# Altium footprint library Test_Jig_Project.PcbLib: 12 footprints
Each footprint in its own frame and in the unit in brackets; x right, y up, seen from the top. Pads: shape width x height; smd on the part's side, far side on the other; paste and mask are expansions set on the pad; w line width, h text height; cw(c..) or ccw(c..) is an arc to the next point about the centre after c.
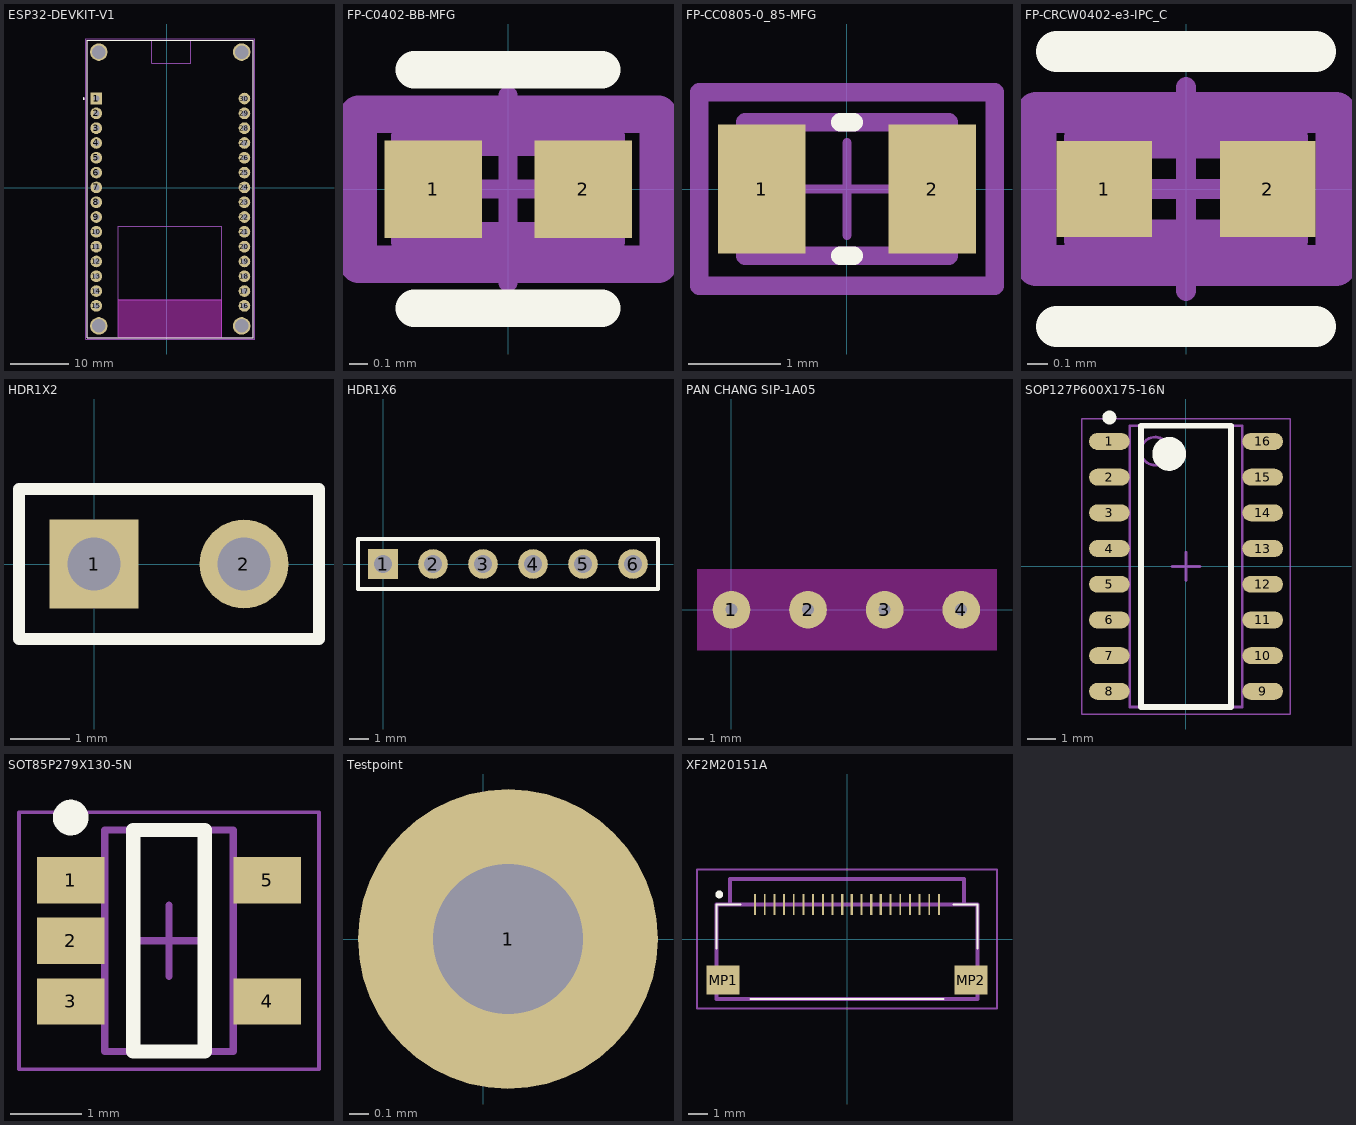
[diagram p0: the footprints below, top view; thin cyan lines are the x and y axes]

## 629105136821 [mm] "Micro USB 2.0 SMT Type B Horizontal 5 Contacts"
height 3

## ESP32-DEVKIT-V1 [mm]
pads (34):
  rect 2x2 hole 1.02: 1(-12.098,15.341)
  round 2 hole 1.02: 2(-12.098,12.801) 3(-12.098,10.261) 4(-12.098,7.721) 5(-12.098,5.181) 6(-12.098,2.641) 7(-12.098,0.101) 8(-12.098,-2.439) 9(-12.098,-4.979) 10(-12.098,-7.519) 11(-12.098,-10.059) 12(-12.098,-12.599) 13(-12.098,-15.139) 14(-12.098,-17.679) 15(-12.098,-20.219) 16(13.302,-20.219) 17(13.302,-17.679) 18(13.302,-15.139) 19(13.302,-12.599) 20(13.302,-10.059) 21(13.302,-7.519) 22(13.302,-4.979) 23(13.302,-2.439) 24(13.302,0.101) 25(13.302,2.641) 26(13.302,5.181) 27(13.302,7.721) 28(13.302,10.261) 29(13.302,12.801) 30(13.302,15.341)
  round 3 hole 2.289 unplated: ""(-11.678,-23.649) ""(-11.678,23.301) ""(12.832,-23.649) ""(12.832,23.301)
Top Overlay:
  circle w0.2: c-14.248,15.341 r0.1
  lines w0.127: -13.678,-25.649 -8.308,-25.649 9.382,-25.649 14.832,-25.649 ; -13.678,-25.649 -13.678,25.301 ; -13.678,-25.649 -13.678,25.301 ; -13.678,-25.649 14.832,-25.649 ; -13.678,25.301 -2.609,25.301 4.102,25.301 14.832,25.301 ; -13.678,25.301 14.832,25.301 ; 14.832,-25.649 14.832,25.301 ; 14.832,-25.649 14.832,25.301
Keep-Out Layer:
  region: 9.382,-25.649 -8.308,-25.649 -8.308,-19.159 9.382,-19.159
  region: 9.382,-25.649 -8.308,-25.649 -8.308,-19.159 9.382,-19.159
  region: 9.382,-25.649 -8.308,-25.649 -8.308,-19.159 9.382,-19.159
Mechanical 13:
  circle w0.2: c-14.248,15.341 r0.1
  lines w0.127: -8.308,-25.649 -8.308,-19.159 ; -8.308,-25.649 9.382,-25.649 ; -8.308,-25.649 -13.678,-25.649 -13.678,25.301 -2.609,25.301 ; -8.308,-19.159 9.382,-19.159 ; -8.308,-19.159 -8.308,-6.529 9.382,-6.529 9.382,-19.159 ; -2.609,25.301 -2.609,21.411 4.102,21.411 4.102,25.301 ; -2.609,25.301 4.102,25.301 ; 4.102,25.301 14.832,25.301 14.832,-25.649 9.382,-25.649 ; 9.382,-25.649 9.382,-19.159
Mechanical 15:
  lines w0.05: -13.928,-25.899 15.082,-25.899 15.082,25.551 -13.928,25.551 -13.928,-25.899
3D body "ESP-32_v1.STEP": height 7.2, standoff -5.2, extent -13.503,-25.629 14.997,25.301

## FP-C0402-BB-MFG [mm]
pads (2):
  rect 0.52x0.52 smd paste+0 mask+0: 1(-0.4,0) 2(0.4,0)
Top Overlay:
  lines w0.2: -0.5,-0.635 0.5,-0.635 ; -0.5,0.635 0.5,0.635
Top 3D Body:
  lines w0.2: -0.525,-0.275 -0.525,0.275 0.525,0.275 0.525,-0.275 -0.525,-0.275
Top Courtyard:
  lines w0.2: -0.8,-0.4 -0.8,0.4 0.8,0.4 0.8,-0.4 -0.8,-0.4
Top Assembly:
  lines w0.2: -0.8,-0.4 -0.8,0.4 0.8,0.4 0.8,-0.4 -0.8,-0.4
  text ".Designator" at 0,0.188 h1
Top Component Center:
  lines w0.1: -0.5,0 0.5,0 ; 0,-0.5 0,0.5
3D body "Cap_Kemet_C0402C562J5RACTU_eec.STEP": height 0.25, standoff 0, extent -0.8,-0.4 0.8,0.4

## FP-CC0805-0_85-MFG [mm]
pads (2):
  rect 0.95x1.4 smd paste+0 mask+0: 1(-0.925,0) 2(0.925,0)
Top Overlay:
  lines w0.2: -0.075,-0.725 0.075,-0.725 ; -0.075,0.725 0.075,0.725
Top 3D Body:
  lines w0.2: -1.1,-0.725 1.1,-0.725 1.1,0.725 -1.1,0.725 -1.1,-0.725
Top Courtyard:
  lines w0.2: -1.6,-1.05 1.6,-1.05 1.6,1.05 -1.6,1.05 -1.6,-1.05
Top Assembly:
  lines w0.2: -1.6,-1.05 1.6,-1.05 1.6,1.05 -1.6,1.05 -1.6,-1.05
  text ".Designator" at 0,0.188 h1
Top Component Center:
  lines w0.1: -0.5,0 0.5,0 ; 0,-0.5 0,0.5
3D body "Cap_Yageo_CC0805KKX7R7BB105_eec.STEP": height 0.25, standoff 0, extent -1.6,-1.05 1.6,1.05

## FP-CRCW0402-e3-IPC_C [mm]
pads (2):
  rect 0.468x0.472 smd paste+0 mask+0: 1(-0.402,0) 2(0.402,0)
Top Overlay:
  lines w0.2: -0.636,-0.675 0.636,-0.675 ; -0.636,0.675 0.636,0.675
Top 3D Body:
  lines w0.2: -0.5,-0.25 0.5,-0.25 0.5,0.25 -0.5,0.25 -0.5,-0.25
Top Courtyard:
  lines w0.2: -0.736,-0.375 0.736,-0.375 0.736,0.375 -0.736,0.375 -0.736,-0.375
Top Assembly:
  lines w0.2: -0.736,-0.375 0.736,-0.375 0.736,0.375 -0.736,0.375 -0.736,-0.375
  text ".Designator" at 0,0.188 h1
Top Component Center:
  lines w0.1: -0.5,0 0.5,0 ; 0,-0.5 0,0.5
3D body "Res_Vishay_CRCW04021K00FKED_eec.STEP": height 0.25, standoff 0, extent -0.736,-0.375 0.736,0.375

## HDR1X2 [mm] "Connector; Header; 2 Position"
pads (2):
  rect 1.5x1.5 hole 0.9: 1(0,0)
  round 1.5 hole 0.9: 2(2.54,0)
Top Overlay:
  lines w0.2: -1.27,-1.27 3.81,-1.27 3.81,1.27 -1.27,1.27 -1.27,-1.27

## HDR1X6 [mm] "Connector; Header; 6 Position"
pads (6):
  rect 1.5x1.5 hole 0.9: 1(0,0)
  round 1.5 hole 0.9: 2(2.54,0) 3(5.08,0) 4(7.62,0) 5(10.16,0) 6(12.7,0)
Top Overlay:
  lines w0.2: -1.27,-1.27 13.97,-1.27 13.97,1.27 -1.27,1.27 -1.27,-1.27

## PAN CHANG SIP-1A05 [mm]
pads (4):
  round 2.5 hole 0.8 square: 1(0,0)
  round 2.5 hole 0.8: 2(5.08,0) 3(10.16,0) 4(15.24,0)
Top Layer:
  pour cut-out: 6.477,8.763
Keep-Out Layer:
  rectangle: -2.286,-2.698 17.614,2.702
3D body "PAN CHANG SIP-1A05_SPST - NO 5V DC Nolocking Through Hole Reed Relays ROHS .STEP": height 7.95, standoff -3.15, extent -2.33,-2.7 17.57,2.7

## SOP127P600X175-16N [mm] "SOP, 16-Leads, Body 9.90x3.90mm, Pitch 1.27mm, IPC Medium Density"
height 1.75
pads (16):
  oval 1.45x0.6 smd: 1(-2.725,4.445) 2(-2.725,3.175) 3(-2.725,1.905) 4(-2.725,0.635) 5(-2.725,-0.635) 6(-2.725,-1.905) 7(-2.725,-3.175) 8(-2.725,-4.445) 9(2.725,-4.445) 10(2.725,-3.175) 11(2.725,-1.905) 12(2.725,-0.635) 13(2.725,0.635) 14(2.725,1.905) 15(2.725,3.175) 16(2.725,4.445)
Top Overlay:
  circle w0.25: c-2.725,5.295 r0.125
  circle w0.6: c-0.6,4 r0.3
  lines w0.2: -1.6,-5 -1.6,5 1.6,5 1.6,-5 -1.6,-5
Top Courtyard:
  lines w0.05: -3.7,-5.25 -3.7,5.25 3.7,5.25 3.7,-5.25 -3.7,-5.25
  lines w0.1: -0.5,0 0.5,0 ; 0,-0.5 0,0.5
Top Assembly:
  circle w0.1: c-1.1,4.1 r0.5
  lines w0.1: -2,-5 -2,5 2,5 2,-5 -2,-5
3D body "SOP127P600X175-16N.step": height 1.75, standoff 0, extent -3,-5 3,5

## SOT85P279X130-5N [mm] "SOT23, 5-Leads, Body 2.90x2.79mm, Pitch 0.85mm, IPC Medium Density"
height 1.3
pads (5):
  rect 0.95x0.65 smd: 1(2.054,3.263) 2(2.054,2.413) 3(2.054,1.563) 4(4.804,1.563) 5(4.804,3.263)
Top Overlay:
  circle w0.25: c2.054,4.138 r0.125
  lines w0.2: 2.929,0.863 2.929,3.963 3.929,3.963 3.929,0.863 2.929,0.863
Mechanical 13:
  lines w0.1: 2.529,0.863 4.329,0.863 4.329,3.963 2.529,3.963 2.529,0.863
Mechanical 15:
  lines w0.05: 1.329,0.613 5.529,0.613 5.529,4.213 1.329,4.213 1.329,0.613
  lines w0.1: 2.929,2.413 3.929,2.413 ; 3.429,1.913 3.429,2.913
3D body "SOT85P279X130-5N.step": height 1.3, standoff 0, extent 1.93,0.863 4.928,3.963

## Testpoint [mil]
pads (1):
  round 60 hole 30: 1(5,0)

## XF2M20151A [mm]
pads (22):
  rect 0.098x1.1 smd mask+0.051: 1(-4.75,1.78) 2(-4.25,1.78) 3(-3.75,1.78) 4(-3.25,1.78) 5(-2.75,1.78) 6(-2.25,1.78) 7(-1.75,1.78) 8(-1.25,1.78) 9(-0.75,1.78) 15(2.25,1.78) 16(2.75,1.78) 17(3.25,1.78) 18(3.75,1.78) 19(4.25,1.78) 20(4.75,1.78)
  rect 0.123x1.1 smd mask+0.051: 10(-0.25,1.78) 11(0.25,1.78) 12(0.75,1.78) 13(1.25,1.78) 14(1.75,1.78)
  rect 1.7x1.5 smd: MP1(-6.4,-2.12) MP2(6.4,-2.12)
Top Overlay:
  lines w0.1: -6.75,-0.5 -6.75,1.78 -5.5,1.78 ; -5,-3.1 5,-3.1 ; 5.5,1.78 6.75,1.78 6.75,-0.5
  lines w0.2: -6.6,2.2 ccw(c-6.6,2.3) -6.6,2.4 ccw(c-6.6,2.3) -6.6,2.2
Mechanical 15:
  lines w0.2: -6.75,-3.1 -6.75,1.78 6.75,1.78 6.75,-3.1 -6.75,-3.1 ; -6.05,1.78 -6.05,3.1 6.05,3.1 6.05,1.78 -6.05,1.78
Mechanical 20:
  lines w0.1: -7.75,-3.6 -7.75,3.6 7.75,3.6 7.75,-3.6 -7.75,-3.6